# EAGLE library part 6P_HEADER (library micromouse_board_revB_V0.0.6)
Generic 6P header
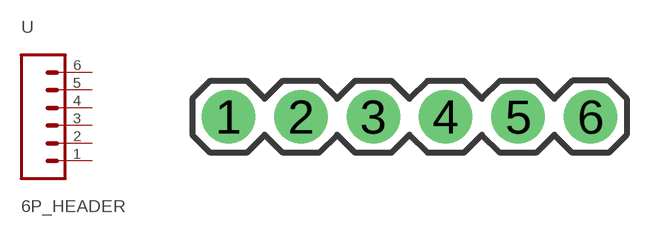
[diagram p1: symbol with the pads of 6P_HEADER; footprint 6P_HEADER]

Designator prefix -

## 6P_HEADER  [6P_HEADER]
1  1  pas
2  2  pas
3  3  pas
4  4  pas
5  5  pas
6  8  pas

## Footprint 6P_HEADER (pad centres in mm)
Plated Through Hole - 5 Pin Specifications: Pin count:5 Pin pitch:0.1" Example device(s): CONN_05
drill 1.016 pad 1.88: 1 0,0; 2 2.54,0; 3 5.08,0; 4 7.62,0; 5 10.16,0; 6 12.7,0